# Altium schematic symbol library MCIMX233DAG4B.Schlib: 1 symbol
Pins are listed as number, name and electrical type; pins without a type are passive.

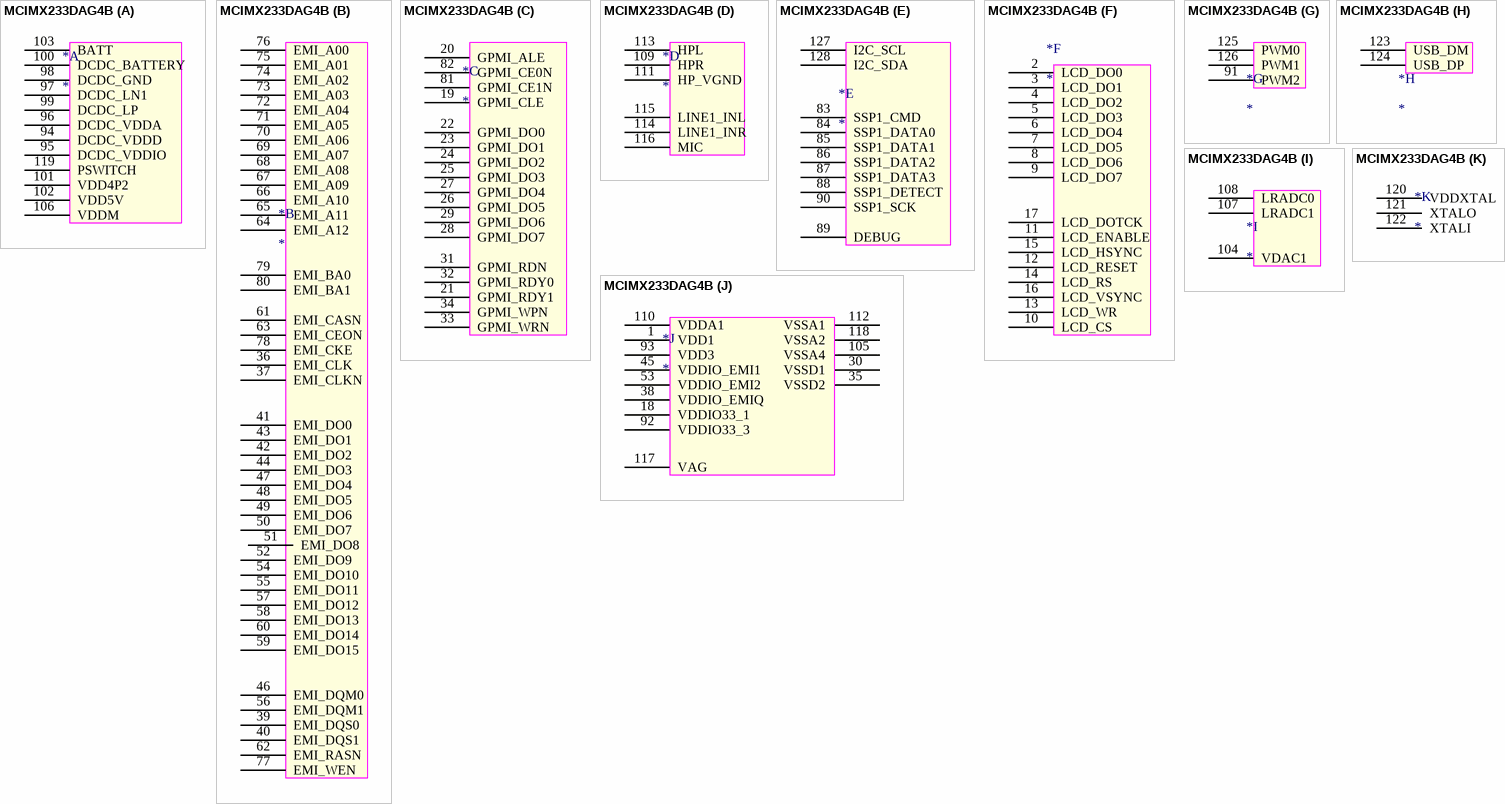
[diagram p0: symbol MCIMX233DAG4B]

## MCIMX233DAG4B
designator *
part A pins: 94 DCDC_VDDD, 95 DCDC_VDDIO, 96 DCDC_VDDA, 97 DCDC_LN1, 98 DCDC_GND, 99 DCDC_LP, 100 DCDC_BATTERY, 101 VDD4P2, 102 VDD5V, 103 BATT, 106 VDDM, 119 PSWITCH
part B pins: 36 EMI_CLK, 37 EMI_CLKN, 39 EMI_DQS0, 40 EMI_DQS1, 41 EMI_DO0, 42 EMI_DO2, 43 EMI_DO1, 44 EMI_DO3, 46 EMI_DQM0, 47 EMI_DO4, 48 EMI_DO5, 49 EMI_DO6, 50 EMI_DO7, 51 EMI_DO8, 52 EMI_DO9, 54 EMI_DO10, 55 EMI_DO11, 56 EMI_DQM1, 57 EMI_DO12, 58 EMI_DO13, 59 EMI_DO15, 60 EMI_DO14, 61 EMI_CASN, 62 EMI_RASN, 63 EMI_CEON, 64 EMI_A12, 65 EMI_A11, 66 EMI_A10, 67 EMI_A09, 68 EMI_A08, 69 EMI_A07, 70 EMI_A06, 71 EMI_A05, 72 EMI_A04, 73 EMI_A03, 74 EMI_A02, 75 EMI_A01, 76 EMI_A00, 77 EMI_WEN, 78 EMI_CKE, 79 EMI_BA0, 80 EMI_BA1
part C pins: 19 GPMI_CLE, 20 GPMI_ALE, 21 GPMI_RDY1, 22 GPMI_DO0, 23 GPMI_DO1, 24 GPMI_DO2, 25 GPMI_DO3, 26 GPMI_DO5, 27 GPMI_DO4, 28 GPMI_DO7, 29 GPMI_DO6, 31 GPMI_RDN, 32 GPMI_RDY0, 33 GPMI_WRN, 34 GPMI_WPN, 81 GPMI_CE1N, 82 GPMI_CE0N
part D pins: 109 HPR, 111 HP_VGND, 113 HPL, 114 LINE1_INR, 115 LINE1_INL, 116 MIC
part E pins: 83 SSP1_CMD, 84 SSP1_DATA0, 85 SSP1_DATA1, 86 SSP1_DATA2, 87 SSP1_DATA3, 88 SSP1_DETECT, 89 DEBUG, 90 SSP1_SCK, 127 I2C_SCL, 128 I2C_SDA
part F pins: 2 LCD_DO0, 3 LCD_DO1, 4 LCD_DO2, 5 LCD_DO3, 6 LCD_DO4, 7 LCD_DO5, 8 LCD_DO6, 9 LCD_DO7, 10 LCD_CS, 11 LCD_ENABLE, 12 LCD_RESET, 13 LCD_WR, 14 LCD_RS, 15 LCD_HSYNC, 16 LCD_VSYNC, 17 LCD_DOTCK
part G pins: 91 PWM2, 125 PWM0, 126 PWM1
part H pins: 123 USB_DM, 124 USB_DP
part I pins: 104 VDAC1, 107 LRADC1, 108 LRADC0
part J pins: 1 VDD1, 18 VDDIO33_1, 30 VSSD1, 35 VSSD2, 38 VDDIO_EMIQ, 45 VDDIO_EMI1, 53 VDDIO_EMI2, 92 VDDIO33_3, 93 VDD3, 105 VSSA4, 110 VDDA1, 112 VSSA1, 117 VAG, 118 VSSA2
part K pins: 120 VDDXTAL, 121 XTALO, 122 XTALI